# Altium schematic symbol library QUTMS_CrystalLibrary.SchLib: 3 symbols
Pins are listed as number, name and electrical type; pins without a type are passive.

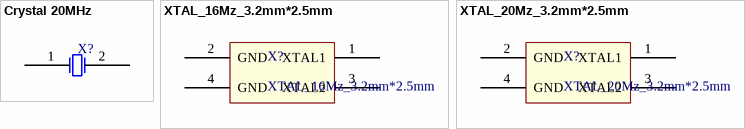
[diagram p0: symbols Crystal 20MHz to XTAL_20Mz_3.2mm*2.5mm]

## Crystal 20MHz
designator X?
ComponentLink1Description: Datasheet; ComponentLink1URL: http://cfd.citizen.co.jp/english/prod-tech/product/pdf/datasheet_AT/HCM49_E.pdf
footprint Crystal 20MHz
pins: 1, 2

## XTAL_16Mz_3.2mm*2.5mm
designator X?
ComponentLink1Description: LCSC; ComponentLink1URL: https://lcsc.com/product-detail/SMD-Crystal-Resonators_Yangxing-Tech-X322516MOB4SI_C12668.html
footprint 3.2mm*2.5mm
pins: 1 XTAL1, 2 GND, 3 XTAL2, 4 GND

## XTAL_20Mz_3.2mm*2.5mm
designator X?
ComponentLink1Description: LCSC; ComponentLink1URL: https://lcsc.com/product-detail/SMD-Crystal-Resonators_Yangxing-Tech-X322520MSB4SI_C9004.html
footprint 3.2mm*2.5mm
pins: 1 XTAL1, 2 GND, 3 XTAL2, 4 GND